# Altium schematic symbol library sym-0025.SchLib: 1 symbol
Pins are listed as number, name and electrical type; pins without a type are passive.

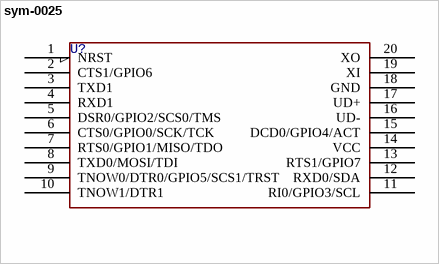
[diagram p0: symbol sym-0025]

## sym-0025
designator U?
CH347T
pins: 1 NRST, 2 CTS1/GPIO6, 3 TXD1, 4 RXD1, 5 DSR0/GPIO2/SCS0/TMS, 6 CTS0/GPIO0/SCK/TCK, 7 RTS0/GPIO1/MISO/TDO, 8 TXD0/MOSI/TDI, 9 TNOW0/DTR0/GPIO5/SCS1/TRST, 10 TNOW1/DTR1, 11 RI0/GPIO3/SCL, 12 RXD0/SDA, 13 RTS1/GPIO7, 14 VCC, 15 DCD0/GPIO4/ACT, 16 UD-, 17 UD+, 18 GND, 19 XI, 20 XO